# EAGLE library part SN65MLVD206 (library RJ45LVDS_SPI)
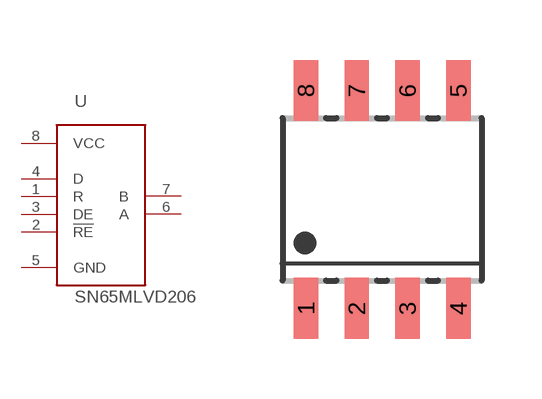
[diagram p2: symbol with the pads of SOIC08-FAIRCHILD; footprint SOIC08-FAIRCHILD]

Designator prefix U

## SN65MLVD206  [SOIC08-FAIRCHILD]
1  R
2  !RE
3  DE
4  D
5  GND
6  A
7  B
8  VCC

## Footprint SOIC08-FAIRCHILD (pad centres in mm)
8-pin SOIC Surface Mount high = 3.13 - 3.63mm Source: Data sheet <http://www.fairchildsemi.com/ds/MO%2FMOCD207-M.pdf>
smd 0.61 x 1.52: 1 -1.905,-2.723; 2 -0.635,-2.723; 3 0.635,-2.723; 4 1.905,-2.723; 5 1.905,2.723; 6 0.635,2.723; 7 -0.635,2.723; 8 -1.905,2.723